# Altium footprint library num_one.PcbLib: 28 footprints (part 1 of 2)
Each footprint in its own frame and in the unit in brackets; x right, y up, seen from the top. Pads: shape width x height; smd on the part's side, far side on the other; paste and mask are expansions set on the pad; w line width, h text height; cw(c..) or ccw(c..) is an arc to the next point about the centre after c.
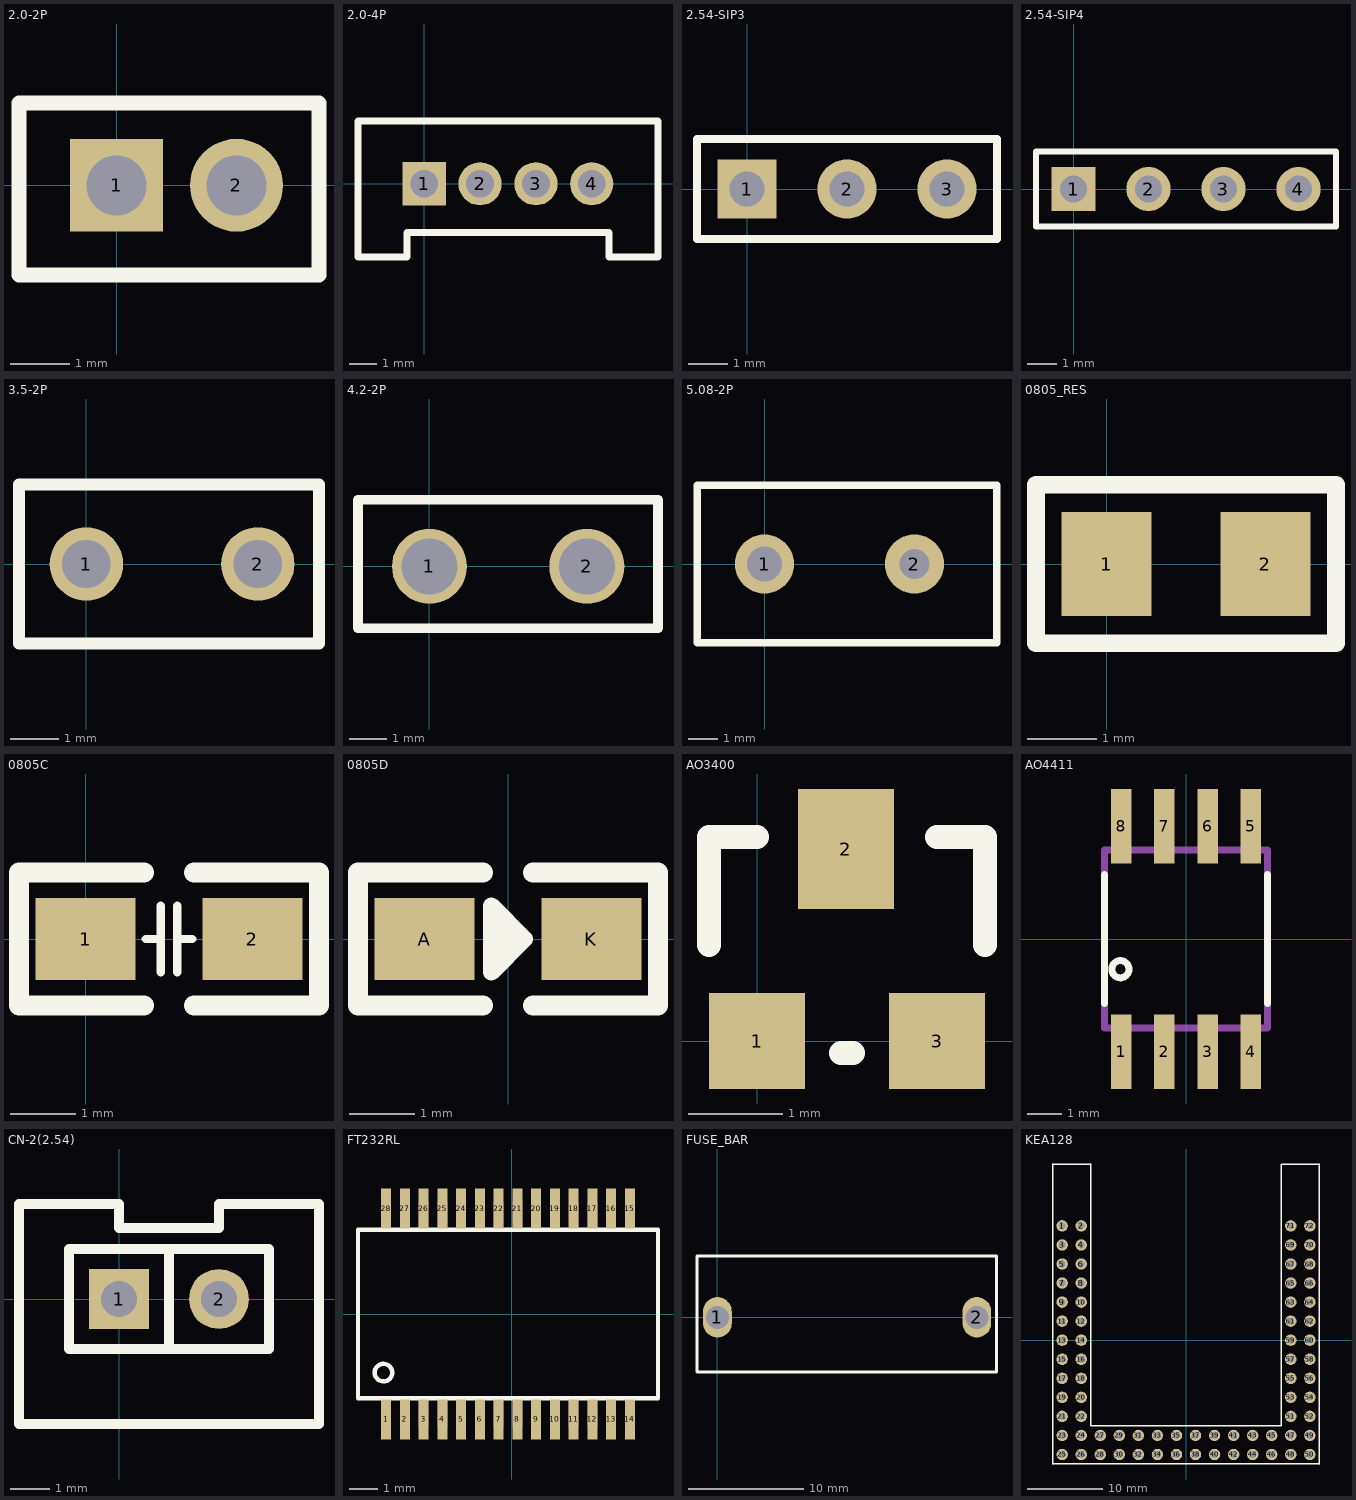
[diagram p0: the footprints below, top view; thin cyan lines are the x and y axes]

## 2.0-2P [mil]
pads (2):
  rect 62x62 hole 40: 1(0,0)
  round 62 hole 40: 2(80,0)
Top Overlay:
  lines w10: -65,-60 135,-60 135,55 -65,55 -65,-60

## 2.0-4P [mil]
pads (4):
  rect 62x62 hole 40: 1(0,0)
  round 62 hole 40: 2(80,0) 3(160,0) 4(240,0)
Top Overlay:
  lines w10: -95,-105 -95,90 335,90 335,-105 265,-105 265,-70 -25,-70 -25,-105 -95,-105

## 2.54-SIP3 [mm]
pads (3):
  rect 1.5x1.5 hole 0.9: 1(0,0)
  round 1.5 hole 0.9: 2(2.54,0) 3(5.08,0)
Top Overlay:
  lines w0.2: -1.27,-1.27 -1.27,1.27 6.35,1.27 6.35,-1.27 -1.27,-1.27

## 2.54-SIP4 [mm]
pads (4):
  rect 1.5x1.5 hole 0.9: 1(0,0)
  round 1.5 hole 0.9: 2(2.54,0) 3(5.08,0) 4(7.62,0)
Top Overlay:
  lines w0.2: -1.27,-1.27 8.89,-1.27 8.89,1.27 -1.27,1.27 -1.27,-1.27

## 3.5-2P [mil]
pads (2):
  round 60 hole 39.37: 1(0,0) 2(140,0)
Top Overlay:
  lines w10: -55,-65 190,-65 190,65 -55,65 -55,-65

## 4.2-2P [mm]
pads (2):
  round 2 hole 1.5: 1(0,0) 2(4.2,0)
Top Overlay:
  lines w0.254: -1.905,-1.651 6.096,-1.651 6.096,1.778 -1.905,1.778 -1.905,-1.651

## 5.08-2P [mm]
pads (2):
  round 2 hole 1.2: 1(0,0)
  round 2 hole 1: 2(5.08,0)
Top Overlay:
  lines w0.254: -2.286,-2.667 7.874,-2.667 7.874,2.667 -2.286,2.667 -2.286,-2.667

## 0805_RES [mm]
pads (2):
  rect 1.3x1.5 smd: 1(0,0) 2(2.286,0)
Top Overlay:
  lines w0.254: -1.016,-1.143 3.302,-1.143 3.302,0.508 3.302,1.143 -1.016,1.143 -1.016,0.635 -1.016,-1.143
3D body "R0805.STEP": height 0.55, standoff 0, extent 0.143,-0.63 2.143,0.63

## 0805C [mil]
pads (2):
  rect 60x49.21 smd: 1(0,0) 2(100,0)
Top Overlay:
  lines w5: 36,0 45,0 ; 45,-20 45,20 ; 55,-20 55,20 ; 55,0 64,0
  lines w12: 35,-40 -40,-40 -40,40 35,40 ; 65,-40 140,-40 140,40 65,40

## 0805D [mil]
pads (2):
  rect 60x49.21 smd: A(-50,0) K(50,0)
Top Overlay:
  lines w10: -10,-10 -5,-10 0,-5 0,0 -3.96,3.96 -10,10 -10,20 ; -10,20 10,0 -10,-20 -10,20
  lines w12: -15,-40 -90,-40 -90,40 -15,40 ; 15,-40 90,-40 90,40 15,40

## AO3400 [mil]
pads (3):
  rect 40x40 smd: 1(0,0) 3(75,0)
  rect 40x50 smd: 2(37,80)
Top Overlay:
  lines w10: -20,40 -20,85 0,85 ; 35,-5 40,-5 ; 75,85 95,85 95,40
3D body "SOT-23-3.STEP": height 47.24, standoff 0, extent -19.76,-11.65 94.42,98.59

## AO4411 [mm]
pads (8):
  rect 0.6x2.2 smd: 1(-1.905,-3.315) 2(-0.635,-3.315) 3(0.635,-3.315) 4(1.905,-3.315) 5(1.905,3.315) 6(0.635,3.315) 7(-0.635,3.315) 8(-1.905,3.315)
Top Overlay:
  circle w0.203: c-1.93,-0.889 r0.254
  lines w0.203: -2.4,-1.9 -2.4,1.9 ; 2.4,-1.9 2.4,1.9
Mechanical 4:
  region: -2.15,3.815 -1.66,3.815 -1.66,2.715 -2.15,2.715
  region: -0.88,3.815 -0.39,3.815 -0.39,2.715 -0.88,2.715
  region: 0.39,3.815 0.88,3.815 0.88,2.715 0.39,2.715
  region: 1.66,3.815 2.15,3.815 2.15,2.715 1.66,2.715
  region: 1.66,-2.715 2.15,-2.715 2.15,-3.815 1.66,-3.815
  region: 0.39,-2.715 0.88,-2.715 0.88,-3.815 0.39,-3.815
  region: -0.88,-2.715 -0.39,-2.715 -0.39,-3.815 -0.88,-3.815
  region: -2.15,-2.715 -1.66,-2.715 -1.66,-3.815 -2.15,-3.815
  region: -2.15,3.815 -1.66,3.815 -1.66,2.715 -2.15,2.715
  region: -0.88,3.815 -0.39,3.815 -0.39,2.715 -0.88,2.715
  region: 0.39,3.815 0.88,3.815 0.88,2.715 0.39,2.715
  region: 1.66,3.815 2.15,3.815 2.15,2.715 1.66,2.715
  region: 1.66,-2.715 2.15,-2.715 2.15,-3.815 1.66,-3.815
  region: 0.39,-2.715 0.88,-2.715 0.88,-3.815 0.39,-3.815
  region: -0.88,-2.715 -0.39,-2.715 -0.39,-3.815 -0.88,-3.815
  region: -2.15,-2.715 -1.66,-2.715 -1.66,-3.815 -2.15,-3.815
  lines w0.203: -2.4,-2.615 -2.4,2.615 ; -2.4,-2.615 2.4,-2.615 ; -2.4,-2.615 -2.4,2.615 ; -2.4,-2.615 2.4,-2.615 ; -2.4,2.615 2.4,2.615 ; -2.4,2.615 2.4,2.615 ; 2.4,-2.615 2.4,2.615 ; 2.4,-2.615 2.4,2.615

## CN-2(2.54) [mil]
pads (2):
  rect 60x60 hole 36: 1(0,0)
  round 60 hole 36: 2(100,0)
Top Overlay:
  lines w10: 50,-50 50,50 ; -100,-125 200,-125 200,95 100,95 100,71 0,71 0,95 -100,95 -100,-125 ; -50,-50 150,-50 150,50 -50,50 -50,-50

## FT232RL [mil]
pads (28):
  rect 13.7x55 smd: 1(-171.34,-143.94) 2(-145.75,-143.94) 3(-120.16,-143.94) 4(-94.57,-143.94) 5(-68.98,-143.94) 6(-43.39,-143.94) 7(-17.8,-143.94) 8(7.8,-143.94) 9(33.39,-143.94) 10(58.98,-143.94) 11(84.57,-143.94) 12(110.16,-143.94) 13(135.75,-143.94) 14(161.34,-143.94) 15(161.34,143.94) 16(135.75,143.94) 17(110.16,143.94) 18(84.57,143.94) 19(58.98,143.94) 20(33.39,143.94) 21(7.8,143.94) 22(-17.8,143.94) 23(-43.39,143.94) 24(-68.98,143.94) 25(-94.57,143.94) 26(-120.16,143.94) 27(-145.75,143.94) 28(-171.34,143.94)
Top Overlay:
  circle w6: c-175,-80 r12
  lines w6: -209.72,-115.16 199.72,-115.16 199.72,115.16 -209.72,115.16 -209.72,-115.16
Mechanical 4:
  drawing of 56 lines, arcs and shapes, not listed

## FUSE_BAR [mm]
pads (2):
  oval 2.5x3.5 hole 2: 1(0,0) 2(22.5,0)
Top Overlay:
  lines w0.254: -1.775,-4.727 -1.775,5.3 24.2,5.3 24.2,-4.727 -1.775,-4.727

## KEA128 [mil]
pads (72):
  round 60 hole 35: 1(-650,600) 2(-550,600) 3(-650,500) 4(-550,500) 5(-650,400) 6(-550,400) 7(-650,300) 8(-550,300) 9(-650,200) 10(-550,200) 11(-650,100) 12(-550,100) 13(-650,0) 14(-550,0) 15(-650,-100) 16(-550,-100) 17(-650,-200) 18(-550,-200) 19(-650,-300) 20(-550,-300) 21(-650,-400) 22(-550,-400) 23(-650,-500) 24(-550,-500) 25(-650,-600) 26(-550,-600) 27(-450,-500) 28(-450,-600) 29(-350,-500) 30(-350,-600) 31(-250,-500) 32(-250,-600) 33(-150,-500) 34(-150,-600) 35(-50,-500) 36(-50,-600) 37(50,-500) 38(50,-600) 39(150,-500) 40(150,-600) 41(250,-500) 42(250,-600) 43(350,-500) 44(350,-600) 45(450,-500) 46(450,-600) 47(550,-500) 48(550,-600) 49(650,-500) 50(650,-600) 51(550,-400) 52(650,-400) 53(550,-300) 54(650,-300) 55(550,-200) 56(650,-200) 57(550,-100) 58(650,-100) 59(550,0) 60(650,0) 61(550,100) 62(650,100) 63(550,200) 64(650,200) 65(550,300) 66(650,300) 67(550,400) 68(650,400) 69(550,500) 70(650,500) 71(550,600) 72(650,600)
Top Overlay:
  lines w7.87: -700,-650 700,-650 ; -700,925 -500,925 ; -500,-450 500,-450 500,925 700,925
  lines w8: -700,-650 -700,925 ; -500,-450 -500,925 ; 700,-650 700,925